# Altium integrated library P-Channel FET.IntLib: 63 symbols (part 2 of 2)
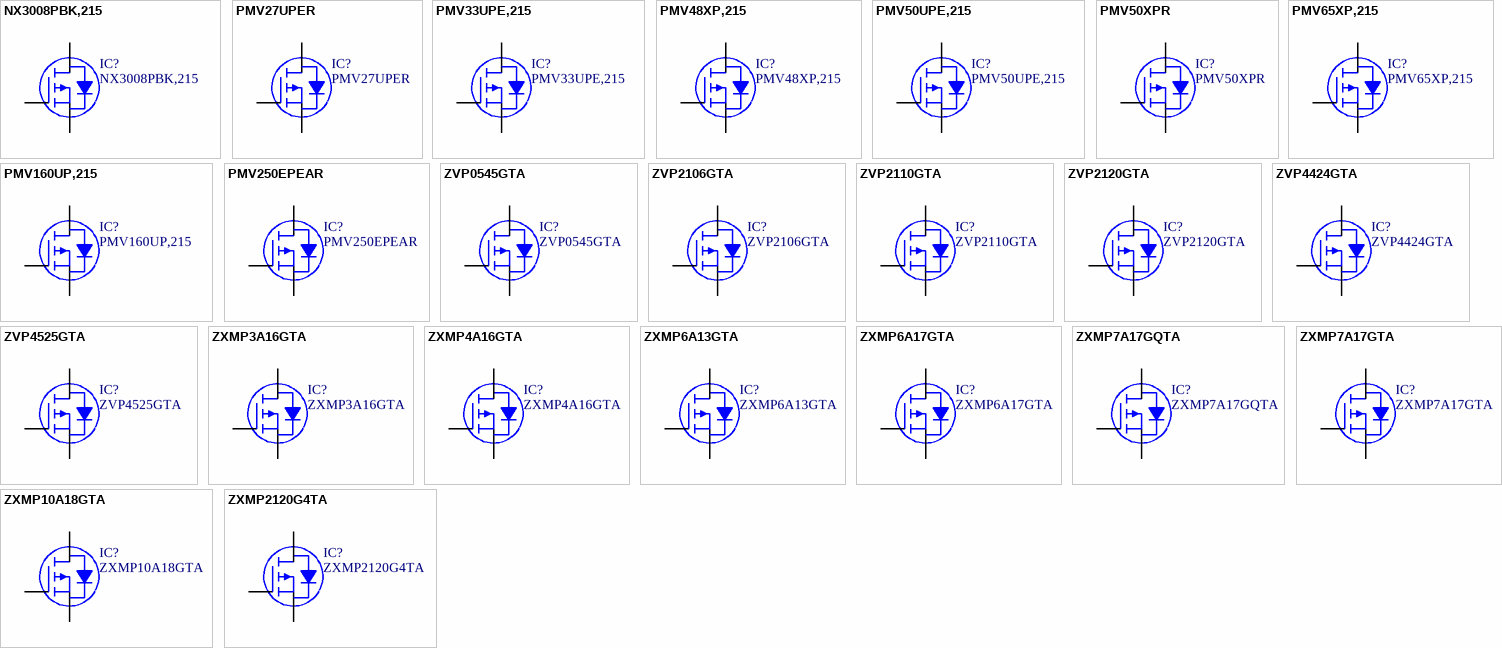
[diagram p2: symbols NX3008PBK,215 to ZXMP2120G4TA]

## ZXMP4A16GTA
designator IC?
MOSFET P-CH 40V 6.4A SOT223; Manufacturer: Diodes Incorporated; Rds On (Max) at Id, Vgs: 60 mOhm @ 3.8A, 10V; Vgs(th) (Max) at Id: 1V @ 250uA; Gate Charge (Qg): 26.1nC @ 10V; Input Capacitance (Ciss) at Vds: 1007pF @ 20V; Power - Max: 2W; Current Continuous Drain: 4.6A (Ta); Part Number: ZXMP4A16GTA; PartId: 8217; Supplier 1: Digi-Key; Supplier Part Number 1: ZXMP4A16GTR-ND; ComponentLink1Description: Datasheet; ComponentLink1URL: http://www.diodes.com/_files/datasheets/ZXMP4A16G.pdf; ComponentLink2Description: Digi-Key Listing; ComponentLink2URL: http://www.digikey.com/product-detail/en/ZXMP4A16GTA/ZXMP4A16GTR-ND/504794; Price: 0.5175; Type: MOSFET P-Channel, Metal Oxide; Device Package: TO-261-4, TO-261AA; Drain to Source Voltage (Vdss): 40V; Features: Standard
footprint DIODES SOT-223
pins: 1 G, 2 D, 3 S, 4 D

## ZXMP6A13GTA
designator IC?
MOSFET P-CH 60V 1.7A SOT223; Manufacturer: Diodes Incorporated; Rds On (Max) at Id, Vgs: 390 mOhm @ 900mA, 10V; Vgs(th) (Max) at Id: 1V @ 250uA; Gate Charge (Qg): 5.9nC @ 10V; Input Capacitance (Ciss) at Vds: 219pF @ 30V; Power - Max: 2W; Current Continuous Drain: 1.7A (Ta); Part Number: ZXMP6A13GTA; PartId: 8207; Supplier 1: Digi-Key; Supplier Part Number 1: ZXMP6A13GTR-ND; ComponentLink1Description: Datasheet; ComponentLink1URL: http://www.diodes.com/_files/datasheets/ZXMP6A13G.pdf; ComponentLink2Description: Digi-Key Listing; ComponentLink2URL: http://www.digikey.com/product-detail/en/ZXMP6A13GTA/ZXMP6A13GTR-ND/560637; Price: 0.296; Type: MOSFET P-Channel, Metal Oxide; Device Package: TO-261-4, TO-261AA; Drain to Source Voltage (Vdss): 60V; Features: Standard
footprint DIODES SOT-223
pins: 1 G, 2 D, 3 S, 4 D

## ZXMP6A17GTA
designator IC?
MOSFET P-CH 60V 3A SOT223; Manufacturer: Diodes Incorporated; Rds On (Max) at Id, Vgs: 125 mOhm @ 2.2A, 10V; Vgs(th) (Max) at Id: 1V @ 250uA; Gate Charge (Qg): 17.7nC @ 10V; Input Capacitance (Ciss) at Vds: 637pF @ 30V; Power - Max: 2W; Current Continuous Drain: 3A (Ta); Part Number: ZXMP6A17GTA; PartId: 8208; Supplier 1: Digi-Key; Supplier Part Number 1: ZXMP6A17GTR-ND; ComponentLink1Description: Datasheet; ComponentLink1URL: http://www.diodes.com/_files/datasheets/ZXMP6A17G.pdf; ComponentLink2Description: Digi-Key Listing; ComponentLink2URL: http://www.digikey.com/product-detail/en/ZXMP6A17GTA/ZXMP6A17GTR-ND/560634; Price: 0.304; Type: MOSFET P-Channel, Metal Oxide; Device Package: TO-261-4, TO-261AA; Drain to Source Voltage (Vdss): 60V; Features: Standard
footprint DIODES SOT-223
pins: 1 G, 2 D, 3 S, 4 D

## ZXMP7A17GQTA
designator IC?
MOSFET P-CH 70V 2.6A SOT223; Manufacturer: Diodes Incorporated; Rds On (Max) at Id, Vgs: 160 mOhm @ 2.1A, 10V; Vgs(th) (Max) at Id: 1V @ 250uA; Gate Charge (Qg): 18nC @ 10V; Input Capacitance (Ciss) at Vds: 635pF @ 40V; Power - Max: 2W; Current Continuous Drain: 2.6A (Ta); Part Number: ZXMP7A17GQTA; PartId: 8210; Supplier 1: Digi-Key; Supplier Part Number 1: ZXMP7A17GQTADITR-ND; ComponentLink1Description: Datasheet; ComponentLink1URL: http://diodes.com/_files/datasheets/ZXMP7A17GQ.pdf; ComponentLink2Description: Digi-Key Listing; ComponentLink2URL: http://www.digikey.com/product-detail/en/ZXMP7A17GQTA/ZXMP7A17GQTADITR-ND/4747698; Price: 0.375; Type: MOSFET P-Channel, Metal Oxide; Device Package: TO-261-4, TO-261AA; Drain to Source Voltage (Vdss): 70V; Features: Standard
footprint DIODES SOT-223
pins: 1 G, 2 D, 3 S, 4 D

## ZXMP7A17GTA
designator IC?
MOSFET P-CH 70V 3.7A SOT-223; Manufacturer: Diodes Incorporated; Rds On (Max) at Id, Vgs: 160 mOhm @ 2.1A, 10V; Vgs(th) (Max) at Id: 1V @ 250uA; Gate Charge (Qg): 18nC @ 10V; Input Capacitance (Ciss) at Vds: 635pF @ 40V; Power - Max: 2W; Current Continuous Drain: 2.6A (Ta); Part Number: ZXMP7A17GTA; PartId: 8209; Supplier 1: Digi-Key; Supplier Part Number 1: ZXMP7A17GTR-ND; ComponentLink1Description: Datasheet; ComponentLink1URL: http://www.diodes.com/_files/datasheets/ZXMP7A17G.pdf; ComponentLink2Description: Digi-Key Listing; ComponentLink2URL: http://www.digikey.com/product-detail/en/ZXMP7A17GTA/ZXMP7A17GTR-ND/1089884; Price: 0.312; Type: MOSFET P-Channel, Metal Oxide; Device Package: TO-261-4, TO-261AA; Drain to Source Voltage (Vdss): 70V; Features: Standard
footprint DIODES SOT-223
pins: 1 G, 2 D, 3 S, 4 D

## ZXMP10A18GTA
designator IC?
MOSFET P-CH 100V 2.6A SOT223; Manufacturer: Diodes Incorporated; Rds On (Max) at Id, Vgs: 150 mOhm @ 2.8A, 10V; Vgs(th) (Max) at Id: 4V @ 250uA; Gate Charge (Qg): 26.9nC @ 10V; Input Capacitance (Ciss) at Vds: 1055pF @ 50V; Power - Max: 2W; Current Continuous Drain: 2.6A (Ta); Part Number: ZXMP10A18GTA; PartId: 8218; Supplier 1: Digi-Key; Supplier Part Number 1: ZXMP10A18GTR-ND; ComponentLink1Description: Datasheet; ComponentLink1URL: http://www.diodes.com/_files/datasheets/ZXMP10A18G.pdf; ComponentLink2Description: Digi-Key Listing; ComponentLink2URL: http://www.digikey.com/product-detail/en/ZXMP10A18GTA/ZXMP10A18GTR-ND/560642; Price: 0.7685; Type: MOSFET P-Channel, Metal Oxide; Device Package: TO-261-4, TO-261AA; Drain to Source Voltage (Vdss): 100V; Features: Standard
footprint DIODES SOT-223
pins: 1 G, 2 D, 3 S, 4 D

## ZXMP2120G4TA
designator IC?
MOSFET P-CH 200V 0.2A SOT-223; Manufacturer: Diodes Incorporated; Rds On (Max) at Id, Vgs: 25 Ohm @ 150mA, 10V; Vgs(th) (Max) at Id: 3.5V @ 1mA; Input Capacitance (Ciss) at Vds: 100pF @ 25V; Power - Max: 2W; Current Continuous Drain: 200mA (Ta); Part Number: ZXMP2120G4TA; PartId: 8212; Supplier 1: Digi-Key; Supplier Part Number 1: ZXMP2120G4TR-ND; ComponentLink1Description: Datasheet; ComponentLink1URL: http://www.diodes.com/_files/datasheets/ZXMP2120G4.pdf; ComponentLink2Description: Digi-Key Listing; ComponentLink2URL: http://www.digikey.com/product-detail/en/ZXMP2120G4TA/ZXMP2120G4TR-ND/1089883; Price: 0.396; Type: MOSFET P-Channel, Metal Oxide; Device Package: TO-261-4, TO-261AA; Gate Charge (Qg): -; Drain to Source Voltage (Vdss): 200V; Features: Standard
footprint DIODES SOT-223
pins: 1 G, 2 D, 3 S, 4 D